# EAGLE library part MCM6249 (library memory-sram)
MEMORY
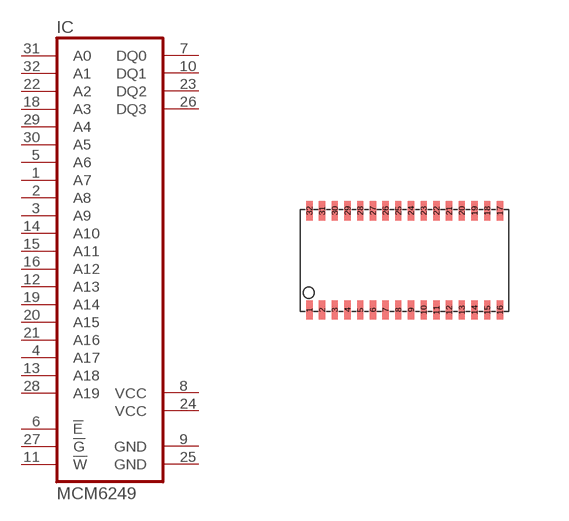
[diagram p16: symbol with the pads of SOJ32/4; footprint SOJ32/4]

Designator prefix IC

## MCM6249  [SOJ32/4]
1  A7  in
2  A8  in
3  A9  in
4  A17  in
5  A6  in
6  !E  in
7  DQ0
8  VCC  pwr
9  GND  pwr
10  DQ1
11  !W  in
12  A13  in
13  A18  in
14  A10  in
15  A11  in
16  A12  in
18  A3  in
19  A14  in
20  A15  in
21  A16  in
22  A2  in
23  DQ2
24  VCC  pwr
25  GND  pwr
26  DQ3
27  !G  in
28  A19  in
29  A4  in
30  A5  in
31  A0  in
32  A1  in

## Footprint SOJ32/4 (pad centres in mm)
Small Outline J-Bend
smd 0.159 x 0.476: 1 -2.381,-1.241; 2 -2.064,-1.241; 3 -1.746,-1.241; 4 -1.429,-1.241; 5 -1.111,-1.241; 6 -0.794,-1.241; 7 -0.476,-1.241; 8 -0.159,-1.241; 9 0.159,-1.241; 10 0.476,-1.241; 11 0.794,-1.241; 12 1.111,-1.241; 13 1.429,-1.241; 14 1.746,-1.241; 15 2.064,-1.241; 16 2.381,-1.241; 17 2.381,1.241; 18 2.064,1.241; 19 1.746,1.241; 20 1.429,1.241; 21 1.111,1.241; 22 0.794,1.241; 23 0.476,1.241; 24 0.159,1.241; 25 -0.159,1.241; 26 -0.476,1.241; 27 -0.794,1.241; 28 -1.111,1.241; 29 -1.429,1.241; 30 -1.746,1.241; 31 -2.064,1.241; 32 -2.381,1.241